# Altium integrated library Linear Technology Power Management Switching Regulator LTC1174-LTC3901.IntLib: 2647 symbols (part 30 of 364)
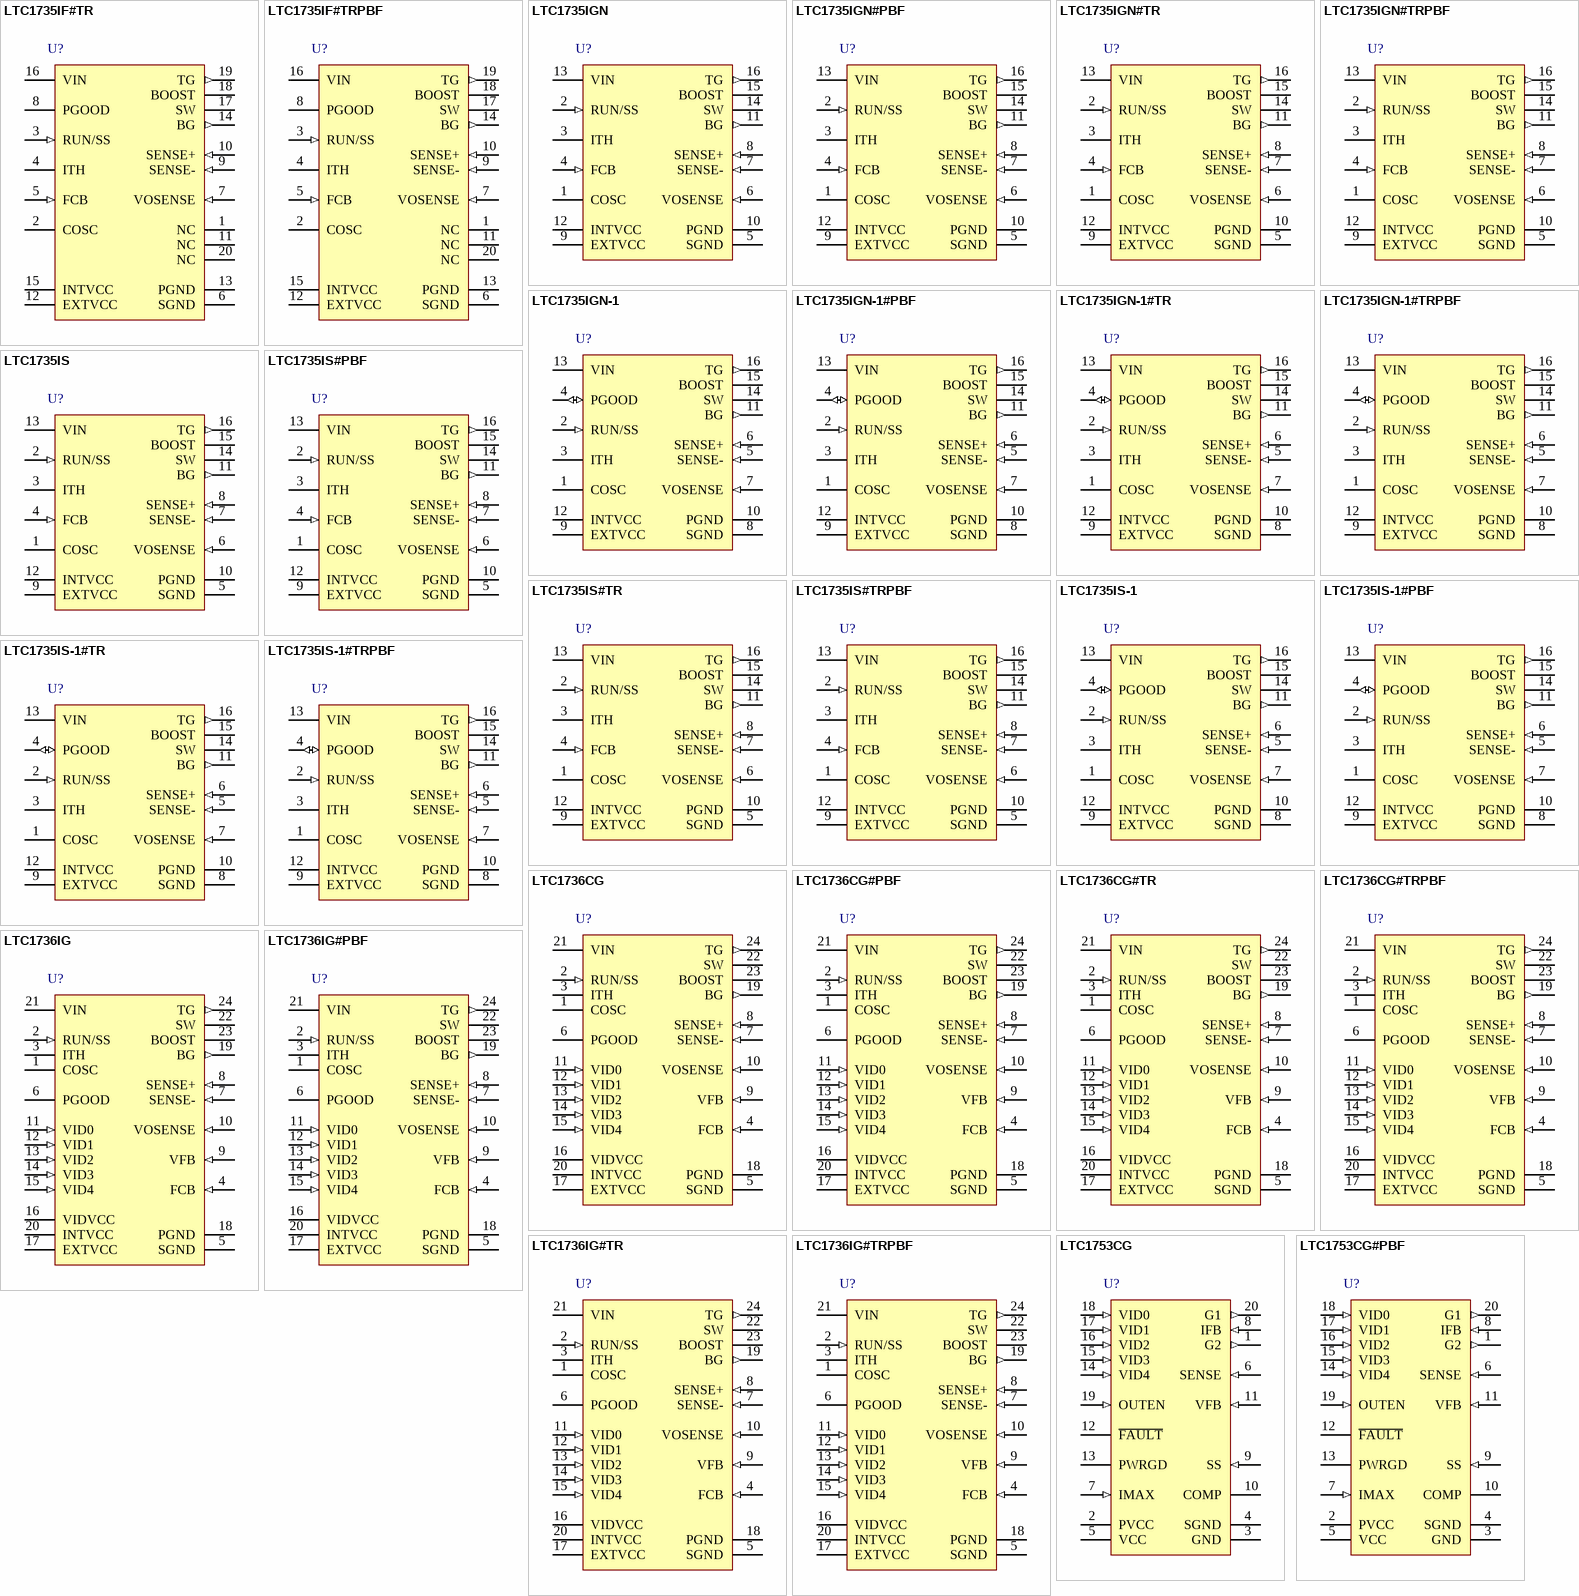
[diagram p131: symbols LTC1735IF#TR to LTC1753CG#PBF]

## LTC1736IG
designator U?
5-Bit Adjustable High Efficiency Synchronous Step-Down Switching Regulator, 24-pin SOP (G-24), -40 to 85 degC; Manufacturer: Linear Technology; PartNumber: LTC1736IG; Number of Outputs: 1; PackageVersion: Jun-10; PackageReference: G-24; PackageDescription: 24-Pin Plastic SSOP, Body 8.2 x 5.3 mm, Pitch 0.65 mm; Supplier 1: Digi-Key; Supplier Part Number 1: LTC1736IG-ND; RoHS: FALSE; Mounting Technology: Surface Mount; ComponentLink1Description: Manufacturer URL; ComponentLink1URL: http://www.linear.com/; ComponentLink2Description: Datasheet; ComponentLink2URL: http://cds.linear.com/docs/en/datasheet/1736f.pdf; ComponentLink3Description: Package Specification; ComponentLink3URL: http://cds.linear.com/docs/en/packaging/SSOP_24_05-08-1640.pdf
footprint LT-G-24_N (SOP, 24-Leads, Body 8.5x5.6mm, Pitch 0.65mm, IPC Medium Density)
footprint LT-G-24_L (SOP, 24-Leads, Body 8.5x5.6mm, Pitch 0.65mm, IPC High Density)
footprint LT-G-24_M (SOP, 24-Leads, Body 8.5x5.6mm, Pitch 0.65mm, IPC Low Density)
pins: 1 COSC "External capacitor COSC from this pin to ground sets the operating frequency.", 2 RUN/SS (in) "Combination of Soft-Start and Run Control Inputs. A capacitor to ground at this pin sets the ramp time to full output current. The time is approximately 1.25s/mF. Forcing this pin below 1.5V causes the device to be shut down.(See Datasheet)", 3 ITH "Error Amplifier Compensation Point. The current comparator threshold increases with this control voltage. Nominal voltage range for this pin is 0V to 2.4V.", 4 FCB (in) "Forced Continuous/Synchronization Input. Tie this pin to ground for continuous synchronous operation, to a resistive divider from the secondary output when using a secondary winding, or to INTVCC to enable Burst Mode (See Datasheet)", 5 SGND (power) "Small-Signal Ground. All small-signal components such as COSC, CSS plus the loop compensation resistors and capacitor(s) should single-point tie to this pin. This pin should, in turn, connect to PGND.", 6 PGOOD (oc) "Open-Drain Logic Output. PGOOD is pulled to ground when the voltage on the VOSENSE pin is not within +/-7.5% of its set point.", 7 SENSE- (in) "The (-) Input to the Current Comparator.", 8 SENSE+ (in) "The (+) Input to the Current Comparator. Built-in offsets between SENSE - and SENSE+ pins in conjunction with RSENSE set the current trip threshold.", 9 VFB (in) "Divided Down VOSENSE Voltage Feeding the Error Amplifier of the Regulator. The VID inputs program a resistive divider between VOSENSE and SGND; the tap point on the divider is VFB . The voltage on VFB is 0.8V when the output (See Datasheet)", 10 VOSENSE (in) "Receives the remotely sensed feedback voltage from the output.", 11 VID0 (in) "Digital Inputs for controlling the output voltage from 0.925V to 2.0V. Table 1 specifies the VOSENSE voltages for the 32 combinations of digital inputs. The LSB (VID0) represents 50mV increments in the upper voltage range (2.(See Datasheet)", 12 VID1 (in) "Digital Inputs for controlling the output voltage from 0.925V to 2.0V. Table 1 specifies the VOSENSE voltages for the 32 combinations of digital inputs. The LSB (VID0) represents 50mV increments in the upper voltage range (2.(See Datasheet)", 13 VID2 (in) "Digital Inputs for controlling the output voltage from 0.925V to 2.0V. Table 1 specifies the VOSENSE voltages for the 32 combinations of digital inputs. The LSB (VID0) represents 50mV increments in the upper voltage range (2.(See Datasheet)", 14 VID3 (in) "Digital Inputs for controlling the output voltage from 0.925V to 2.0V. Table 1 specifies the VOSENSE voltages for the 32 combinations of digital inputs. The LSB (VID0) represents 50mV increments in the upper voltage range (2.(See Datasheet)", 15 VID4 (in) "Digital Inputs for controlling the output voltage from 0.925V to 2.0V. Table 1 specifies the VOSENSE voltages for the 32 combinations of digital inputs. The LSB (VID0) represents 50mV increments in the upper voltage range (2.(See Datasheet)", 16 VIDVCC (power) "VID Input Supply Voltage. Can range from 2.7V to 7V. Typically this pin is tied to INTVCC.", 17 EXTVCC (power) "Input to the Internal Switch Connected to INTVCC. This switch closes and supplies VCC power whenever EXTVCC is higher than 4.7V. See EXTVCC connection in the Applications Information section. Do not exceed 7V to this pin and (See Datasheet)", 18 PGND (power) "Driver Power Ground. This pin connects to the source of the bottom N-channel MOSFET, the anode of the Schottky diode and the (-) terminal of CIN.", 19 BG (out) "High Current Gate Drive for Bottom N-Channel MOSFET. Voltage swing at this pin is from ground to INTVCC .", 20 INTVCC (power) "Output of the Internal 5.2V Regulator and EXTVCC Switch. The driver and control circuits are powered from this voltage. Decouple to power ground with a 1uF ceramic capacitor placed directly adjacent to the IC together with a (See Datasheet)", 21 VIN (power) "Main Supply Pin. This pin must be closely decoupled to power ground.", 22 SW "Switch Node Connection to Inductor and Bootstrap Capacitor. Voltage swing at this pin is from a Schottky diode (external) voltage drop below ground to VIN.", 23 BOOST "Supply to Topside Floating Driver. The bootstrap capacitor is returned to this pin. Voltage swing at this pin is from a diode drop below INTVCC to VIN + INTVCC.", 24 TG (out) "High Current Gate Drive for Top N-Channel MOSFET. This is the output of a floating driver with a voltage swing equal to INTVCC superimposed on the switch node voltage SW."

## LTC1736IG#PBF
designator U?
5-Bit Adjustable High Efficiency Synchronous Step-Down Switching Regulator, 24-pin SOP (G-24), -40 to 85 degC, Pb-Free; Manufacturer: Linear Technology; PartNumber: LTC1736IG#PBF; Number of Outputs: 1; PackageVersion: Jun-10; PackageReference: G-24; PackageDescription: 24-Pin Plastic SSOP, Body 8.2 x 5.3 mm, Pitch 0.65 mm; Supplier 1: Digi-Key; Supplier Part Number 1: LTC1736IG#PBF-ND; RoHS: TRUE; Mounting Technology: Surface Mount; ComponentLink1Description: Manufacturer URL; ComponentLink1URL: http://www.linear.com/; ComponentLink2Description: Datasheet; ComponentLink2URL: http://cds.linear.com/docs/en/datasheet/1736f.pdf; ComponentLink3Description: Package Specification; ComponentLink3URL: http://cds.linear.com/docs/en/packaging/SSOP_24_05-08-1640.pdf
footprint LT-G-24_N (SOP, 24-Leads, Body 8.5x5.6mm, Pitch 0.65mm, IPC Medium Density)
footprint LT-G-24_L (SOP, 24-Leads, Body 8.5x5.6mm, Pitch 0.65mm, IPC High Density)
footprint LT-G-24_M (SOP, 24-Leads, Body 8.5x5.6mm, Pitch 0.65mm, IPC Low Density)
pins: 1 COSC "External capacitor COSC from this pin to ground sets the operating frequency.", 2 RUN/SS (in) "Combination of Soft-Start and Run Control Inputs. A capacitor to ground at this pin sets the ramp time to full output current. The time is approximately 1.25s/mF. Forcing this pin below 1.5V causes the device to be shut down.(See Datasheet)", 3 ITH "Error Amplifier Compensation Point. The current comparator threshold increases with this control voltage. Nominal voltage range for this pin is 0V to 2.4V.", 4 FCB (in) "Forced Continuous/Synchronization Input. Tie this pin to ground for continuous synchronous operation, to a resistive divider from the secondary output when using a secondary winding, or to INTVCC to enable Burst Mode (See Datasheet)", 5 SGND (power) "Small-Signal Ground. All small-signal components such as COSC, CSS plus the loop compensation resistors and capacitor(s) should single-point tie to this pin. This pin should, in turn, connect to PGND.", 6 PGOOD (oc) "Open-Drain Logic Output. PGOOD is pulled to ground when the voltage on the VOSENSE pin is not within +/-7.5% of its set point.", 7 SENSE- (in) "The (-) Input to the Current Comparator.", 8 SENSE+ (in) "The (+) Input to the Current Comparator. Built-in offsets between SENSE - and SENSE+ pins in conjunction with RSENSE set the current trip threshold.", 9 VFB (in) "Divided Down VOSENSE Voltage Feeding the Error Amplifier of the Regulator. The VID inputs program a resistive divider between VOSENSE and SGND; the tap point on the divider is VFB . The voltage on VFB is 0.8V when the output (See Datasheet)", 10 VOSENSE (in) "Receives the remotely sensed feedback voltage from the output.", 11 VID0 (in) "Digital Inputs for controlling the output voltage from 0.925V to 2.0V. Table 1 specifies the VOSENSE voltages for the 32 combinations of digital inputs. The LSB (VID0) represents 50mV increments in the upper voltage range (2.(See Datasheet)", 12 VID1 (in) "Digital Inputs for controlling the output voltage from 0.925V to 2.0V. Table 1 specifies the VOSENSE voltages for the 32 combinations of digital inputs. The LSB (VID0) represents 50mV increments in the upper voltage range (2.(See Datasheet)", 13 VID2 (in) "Digital Inputs for controlling the output voltage from 0.925V to 2.0V. Table 1 specifies the VOSENSE voltages for the 32 combinations of digital inputs. The LSB (VID0) represents 50mV increments in the upper voltage range (2.(See Datasheet)", 14 VID3 (in) "Digital Inputs for controlling the output voltage from 0.925V to 2.0V. Table 1 specifies the VOSENSE voltages for the 32 combinations of digital inputs. The LSB (VID0) represents 50mV increments in the upper voltage range (2.(See Datasheet)", 15 VID4 (in) "Digital Inputs for controlling the output voltage from 0.925V to 2.0V. Table 1 specifies the VOSENSE voltages for the 32 combinations of digital inputs. The LSB (VID0) represents 50mV increments in the upper voltage range (2.(See Datasheet)", 16 VIDVCC (power) "VID Input Supply Voltage. Can range from 2.7V to 7V. Typically this pin is tied to INTVCC.", 17 EXTVCC (power) "Input to the Internal Switch Connected to INTVCC. This switch closes and supplies VCC power whenever EXTVCC is higher than 4.7V. See EXTVCC connection in the Applications Information section. Do not exceed 7V to this pin and (See Datasheet)", 18 PGND (power) "Driver Power Ground. This pin connects to the source of the bottom N-channel MOSFET, the anode of the Schottky diode and the (-) terminal of CIN.", 19 BG (out) "High Current Gate Drive for Bottom N-Channel MOSFET. Voltage swing at this pin is from ground to INTVCC .", 20 INTVCC (power) "Output of the Internal 5.2V Regulator and EXTVCC Switch. The driver and control circuits are powered from this voltage. Decouple to power ground with a 1uF ceramic capacitor placed directly adjacent to the IC together with a (See Datasheet)", 21 VIN (power) "Main Supply Pin. This pin must be closely decoupled to power ground.", 22 SW "Switch Node Connection to Inductor and Bootstrap Capacitor. Voltage swing at this pin is from a Schottky diode (external) voltage drop below ground to VIN.", 23 BOOST "Supply to Topside Floating Driver. The bootstrap capacitor is returned to this pin. Voltage swing at this pin is from a diode drop below INTVCC to VIN + INTVCC.", 24 TG (out) "High Current Gate Drive for Top N-Channel MOSFET. This is the output of a floating driver with a voltage swing equal to INTVCC superimposed on the switch node voltage SW."

## LTC1736IG#TR
designator U?
5-Bit Adjustable High Efficiency Synchronous Step-Down Switching Regulator, 24-pin SOP (G-24), -40 to 85 degC, Tape and Reel; Manufacturer: Linear Technology; PartNumber: LTC1736IG#TR; Number of Outputs: 1; PackageVersion: Jun-10; PackageReference: G-24; PackageDescription: 24-Pin Plastic SSOP, Body 8.2 x 5.3 mm, Pitch 0.65 mm; Supplier 1: Digi-Key; Supplier Part Number 1: LTC1736IG#TR-ND; Packing: Tape and Reel; RoHS: FALSE; Mounting Technology: Surface Mount; ComponentLink1Description: Manufacturer URL; ComponentLink1URL: http://www.linear.com/; ComponentLink2Description: Datasheet; ComponentLink2URL: http://cds.linear.com/docs/en/datasheet/1736f.pdf; ComponentLink3Description: Package Specification; ComponentLink3URL: http://cds.linear.com/docs/en/packaging/SSOP_24_05-08-1640.pdf
footprint LT-G-24_N (SOP, 24-Leads, Body 8.5x5.6mm, Pitch 0.65mm, IPC Medium Density)
footprint LT-G-24_L (SOP, 24-Leads, Body 8.5x5.6mm, Pitch 0.65mm, IPC High Density)
footprint LT-G-24_M (SOP, 24-Leads, Body 8.5x5.6mm, Pitch 0.65mm, IPC Low Density)
pins: 1 COSC "External capacitor COSC from this pin to ground sets the operating frequency.", 2 RUN/SS (in) "Combination of Soft-Start and Run Control Inputs. A capacitor to ground at this pin sets the ramp time to full output current. The time is approximately 1.25s/mF. Forcing this pin below 1.5V causes the device to be shut down.(See Datasheet)", 3 ITH "Error Amplifier Compensation Point. The current comparator threshold increases with this control voltage. Nominal voltage range for this pin is 0V to 2.4V.", 4 FCB (in) "Forced Continuous/Synchronization Input. Tie this pin to ground for continuous synchronous operation, to a resistive divider from the secondary output when using a secondary winding, or to INTVCC to enable Burst Mode (See Datasheet)", 5 SGND (power) "Small-Signal Ground. All small-signal components such as COSC, CSS plus the loop compensation resistors and capacitor(s) should single-point tie to this pin. This pin should, in turn, connect to PGND.", 6 PGOOD (oc) "Open-Drain Logic Output. PGOOD is pulled to ground when the voltage on the VOSENSE pin is not within +/-7.5% of its set point.", 7 SENSE- (in) "The (-) Input to the Current Comparator.", 8 SENSE+ (in) "The (+) Input to the Current Comparator. Built-in offsets between SENSE - and SENSE+ pins in conjunction with RSENSE set the current trip threshold.", 9 VFB (in) "Divided Down VOSENSE Voltage Feeding the Error Amplifier of the Regulator. The VID inputs program a resistive divider between VOSENSE and SGND; the tap point on the divider is VFB . The voltage on VFB is 0.8V when the output (See Datasheet)", 10 VOSENSE (in) "Receives the remotely sensed feedback voltage from the output.", 11 VID0 (in) "Digital Inputs for controlling the output voltage from 0.925V to 2.0V. Table 1 specifies the VOSENSE voltages for the 32 combinations of digital inputs. The LSB (VID0) represents 50mV increments in the upper voltage range (2.(See Datasheet)", 12 VID1 (in) "Digital Inputs for controlling the output voltage from 0.925V to 2.0V. Table 1 specifies the VOSENSE voltages for the 32 combinations of digital inputs. The LSB (VID0) represents 50mV increments in the upper voltage range (2.(See Datasheet)", 13 VID2 (in) "Digital Inputs for controlling the output voltage from 0.925V to 2.0V. Table 1 specifies the VOSENSE voltages for the 32 combinations of digital inputs. The LSB (VID0) represents 50mV increments in the upper voltage range (2.(See Datasheet)", 14 VID3 (in) "Digital Inputs for controlling the output voltage from 0.925V to 2.0V. Table 1 specifies the VOSENSE voltages for the 32 combinations of digital inputs. The LSB (VID0) represents 50mV increments in the upper voltage range (2.(See Datasheet)", 15 VID4 (in) "Digital Inputs for controlling the output voltage from 0.925V to 2.0V. Table 1 specifies the VOSENSE voltages for the 32 combinations of digital inputs. The LSB (VID0) represents 50mV increments in the upper voltage range (2.(See Datasheet)", 16 VIDVCC (power) "VID Input Supply Voltage. Can range from 2.7V to 7V. Typically this pin is tied to INTVCC.", 17 EXTVCC (power) "Input to the Internal Switch Connected to INTVCC. This switch closes and supplies VCC power whenever EXTVCC is higher than 4.7V. See EXTVCC connection in the Applications Information section. Do not exceed 7V to this pin and (See Datasheet)", 18 PGND (power) "Driver Power Ground. This pin connects to the source of the bottom N-channel MOSFET, the anode of the Schottky diode and the (-) terminal of CIN.", 19 BG (out) "High Current Gate Drive for Bottom N-Channel MOSFET. Voltage swing at this pin is from ground to INTVCC .", 20 INTVCC (power) "Output of the Internal 5.2V Regulator and EXTVCC Switch. The driver and control circuits are powered from this voltage. Decouple to power ground with a 1uF ceramic capacitor placed directly adjacent to the IC together with a (See Datasheet)", 21 VIN (power) "Main Supply Pin. This pin must be closely decoupled to power ground.", 22 SW "Switch Node Connection to Inductor and Bootstrap Capacitor. Voltage swing at this pin is from a Schottky diode (external) voltage drop below ground to VIN.", 23 BOOST "Supply to Topside Floating Driver. The bootstrap capacitor is returned to this pin. Voltage swing at this pin is from a diode drop below INTVCC to VIN + INTVCC.", 24 TG (out) "High Current Gate Drive for Top N-Channel MOSFET. This is the output of a floating driver with a voltage swing equal to INTVCC superimposed on the switch node voltage SW."

## LTC1736IG#TRPBF
designator U?
5-Bit Adjustable High Efficiency Synchronous Step-Down Switching Regulator, 24-pin SOP (G-24), -40 to 85 degC, Pb-Free, Tape and Reel; Manufacturer: Linear Technology; PartNumber: LTC1736IG#TRPBF; Number of Outputs: 1; PackageVersion: Jun-10; PackageReference: G-24; PackageDescription: 24-Pin Plastic SSOP, Body 8.2 x 5.3 mm, Pitch 0.65 mm; Supplier 1: Digi-Key; Supplier Part Number 1: LTC1736IG#TRPBF-ND; Packing: Tape and Reel; RoHS: TRUE; Mounting Technology: Surface Mount; ComponentLink1Description: Manufacturer URL; ComponentLink1URL: http://www.linear.com/; ComponentLink2Description: Datasheet; ComponentLink2URL: http://cds.linear.com/docs/en/datasheet/1736f.pdf; ComponentLink3Description: Package Specification; ComponentLink3URL: http://cds.linear.com/docs/en/packaging/SSOP_24_05-08-1640.pdf
footprint LT-G-24_N (SOP, 24-Leads, Body 8.5x5.6mm, Pitch 0.65mm, IPC Medium Density)
footprint LT-G-24_L (SOP, 24-Leads, Body 8.5x5.6mm, Pitch 0.65mm, IPC High Density)
footprint LT-G-24_M (SOP, 24-Leads, Body 8.5x5.6mm, Pitch 0.65mm, IPC Low Density)
pins: 1 COSC "External capacitor COSC from this pin to ground sets the operating frequency.", 2 RUN/SS (in) "Combination of Soft-Start and Run Control Inputs. A capacitor to ground at this pin sets the ramp time to full output current. The time is approximately 1.25s/mF. Forcing this pin below 1.5V causes the device to be shut down.(See Datasheet)", 3 ITH "Error Amplifier Compensation Point. The current comparator threshold increases with this control voltage. Nominal voltage range for this pin is 0V to 2.4V.", 4 FCB (in) "Forced Continuous/Synchronization Input. Tie this pin to ground for continuous synchronous operation, to a resistive divider from the secondary output when using a secondary winding, or to INTVCC to enable Burst Mode (See Datasheet)", 5 SGND (power) "Small-Signal Ground. All small-signal components such as COSC, CSS plus the loop compensation resistors and capacitor(s) should single-point tie to this pin. This pin should, in turn, connect to PGND.", 6 PGOOD (oc) "Open-Drain Logic Output. PGOOD is pulled to ground when the voltage on the VOSENSE pin is not within +/-7.5% of its set point.", 7 SENSE- (in) "The (-) Input to the Current Comparator.", 8 SENSE+ (in) "The (+) Input to the Current Comparator. Built-in offsets between SENSE - and SENSE+ pins in conjunction with RSENSE set the current trip threshold.", 9 VFB (in) "Divided Down VOSENSE Voltage Feeding the Error Amplifier of the Regulator. The VID inputs program a resistive divider between VOSENSE and SGND; the tap point on the divider is VFB . The voltage on VFB is 0.8V when the output (See Datasheet)", 10 VOSENSE (in) "Receives the remotely sensed feedback voltage from the output.", 11 VID0 (in) "Digital Inputs for controlling the output voltage from 0.925V to 2.0V. Table 1 specifies the VOSENSE voltages for the 32 combinations of digital inputs. The LSB (VID0) represents 50mV increments in the upper voltage range (2.(See Datasheet)", 12 VID1 (in) "Digital Inputs for controlling the output voltage from 0.925V to 2.0V. Table 1 specifies the VOSENSE voltages for the 32 combinations of digital inputs. The LSB (VID0) represents 50mV increments in the upper voltage range (2.(See Datasheet)", 13 VID2 (in) "Digital Inputs for controlling the output voltage from 0.925V to 2.0V. Table 1 specifies the VOSENSE voltages for the 32 combinations of digital inputs. The LSB (VID0) represents 50mV increments in the upper voltage range (2.(See Datasheet)", 14 VID3 (in) "Digital Inputs for controlling the output voltage from 0.925V to 2.0V. Table 1 specifies the VOSENSE voltages for the 32 combinations of digital inputs. The LSB (VID0) represents 50mV increments in the upper voltage range (2.(See Datasheet)", 15 VID4 (in) "Digital Inputs for controlling the output voltage from 0.925V to 2.0V. Table 1 specifies the VOSENSE voltages for the 32 combinations of digital inputs. The LSB (VID0) represents 50mV increments in the upper voltage range (2.(See Datasheet)", 16 VIDVCC (power) "VID Input Supply Voltage. Can range from 2.7V to 7V. Typically this pin is tied to INTVCC.", 17 EXTVCC (power) "Input to the Internal Switch Connected to INTVCC. This switch closes and supplies VCC power whenever EXTVCC is higher than 4.7V. See EXTVCC connection in the Applications Information section. Do not exceed 7V to this pin and (See Datasheet)", 18 PGND (power) "Driver Power Ground. This pin connects to the source of the bottom N-channel MOSFET, the anode of the Schottky diode and the (-) terminal of CIN.", 19 BG (out) "High Current Gate Drive for Bottom N-Channel MOSFET. Voltage swing at this pin is from ground to INTVCC .", 20 INTVCC (power) "Output of the Internal 5.2V Regulator and EXTVCC Switch. The driver and control circuits are powered from this voltage. Decouple to power ground with a 1uF ceramic capacitor placed directly adjacent to the IC together with a (See Datasheet)", 21 VIN (power) "Main Supply Pin. This pin must be closely decoupled to power ground.", 22 SW "Switch Node Connection to Inductor and Bootstrap Capacitor. Voltage swing at this pin is from a Schottky diode (external) voltage drop below ground to VIN.", 23 BOOST "Supply to Topside Floating Driver. The bootstrap capacitor is returned to this pin. Voltage swing at this pin is from a diode drop below INTVCC to VIN + INTVCC.", 24 TG (out) "High Current Gate Drive for Top N-Channel MOSFET. This is the output of a floating driver with a voltage swing equal to INTVCC superimposed on the switch node voltage SW."

## LTC1753CG
designator U?
5-Bit Programmable Synchronous Switching Regulator Controller for Pentium(R) II Processor, 20-pin SOP (G-20), 0 to 70 degC; Manufacturer: Linear Technology; PartNumber: LTC1753CG; Number of Outputs: 1; DatasheetVersion: Rev. A; PackageVersion: Jun-10; PackageReference: G-20; PackageDescription: 20-Pin Plastic SSOP, Body 7.2 x 5.3 mm, Pitch 0.65 mm; Supplier 1: Digi-Key; Supplier Part Number 1: LTC1753CG-ND; RoHS: FALSE; Mounting Technology: Surface Mount; ComponentLink1Description: Manufacturer URL; ComponentLink1URL: http://www.linear.com/; ComponentLink2Description: Datasheet; ComponentLink2URL: http://cds.linear.com/docs/en/datasheet/1753fa.pdf; ComponentLink3Description: Package Specification; ComponentLink3URL: http://cds.linear.com/docs/en/packaging/SSOP_20_05-08-1640.pdf
footprint LT-G-20_N (SOP, 20-Leads, Body 7.2x5.3mm, Pitch 0.65mm, IPC Medium Density)
footprint LT-G-20_L (SOP, 20-Leads, Body 7.2x5.3mm, Pitch 0.65mm, IPC High Density)
footprint LT-G-20_M (SOP, 20-Leads, Body 7.2x5.3mm, Pitch 0.65mm, IPC Low Density)
pins: 1 G2 (out) "Gate Drive for the Lower N-Channel MOSFET, Q2. This output will swing from PVCC to GND. It will always be low when G1 is high or when the output is disabled. To prevent undershoot during a soft-start cycle, G2 is held low (See Datasheet)", 2 PVCC (power) "Power Supply for G1 and G2. PVCC must be connected to a potential of at least VIN + VGS(ON)Q1. For normal applications, connect PVCC to a 12V power supply or generate PVCC using a simple charge pump.", 3 GND (power) "Power Ground. GND should be connected to a low impedance ground plane in close proximity to the source of Q2.", 4 SGND (power) "Signal Ground. SGND is connected to the low power internal circuitry and should be connected to the negative terminal of the output capacitor where it returns to the ground plane. GND and SGND should be shorted directly at (See Datasheet)", 5 VCC (power) "Power Supply. Power for the internal low power circuity. VCC should be wired separately from the drain of Q1 if they share the same supply. A 10uF bypass capacitor is recommended from this pin to SGND.", 6 SENSE (in) "Output Voltage Pin. Connect to the positive terminal of the output capacitor. There is an internal 108k resistor connected from this pin to SGND. SENSE is a very sensitive pin; for optimum performance, connect an external (See Datasheet)", 7 IMAX (in) "Current Limit Threshold. Current limit is set by the voltage drop across an external resistor connected between the drain of Q1 and IMAX. There is a 190uA internal pull-down at IMAX.", 8 IFB (in) "Current Limit Sense Pin. Connect to the switching node between the source of Q1 and the drain of Q2. If IFB drops below IMAX when G1 is on, the LTC1753 will go into current limit. The current limit circuit can be disabled by (See Datasheet)", 9 SS (in) "Soft-Start. Connect to an external capacitor to implement a soft-start function. During moderate overload conditions, the soft-start capacitor will be discharged slowly in order to reduce the duty cycle. In hard current (See Datasheet)", 10 COMP "External Compensation. The COMP pin is connected directly to the output of the error amplifier and the input of the PWM comparator. An RC+C network is used at this node to compensate the feedback loop to provide optimum (See Datasheet)", 11 VFB (in) "Voltage Feedback. VFB is the tap point of the internal resistor divider connected from SENSE to SGND. During rapid and heavy output loading conditions, a small capacitor between the SENSE and VFB pin creates a feedforward (See Datasheet)", 12 ~{FAULT} (oc) "Overvoltage Fault. F\A\U\L\T\ is an opendrain output. If VOUT reaches 13% above the nominal output voltage, F\A\U\L\T\ will go low and G1 and G2 will be disabled. Once triggered, the LTC1753 will remain in this state until (See Datasheet)", 13 PWRGD (oc) "Power Good. This is an open-drain signal to indicate validity of output voltage. A high indicates that the output has settled to within +/-3% of the rated output for more than 1ms. PWRGD will go low if the output is out of (See Datasheet)", 14 VID4 (in) "Digital Voltage Select. TTL inputs used to set the regulated output voltage required by the processor (Table 2). There is an internal 20kohm pull-up at each pin. When all five VIDn pins are high or floating, the chip will (See Datasheet)", 15 VID3 (in) "Digital Voltage Select. TTL inputs used to set the regulated output voltage required by the processor (Table 2). There is an internal 20kohm pull-up at each pin. When all five VIDn pins are high or floating, the chip will (See Datasheet)", 16 VID2 (in) "Digital Voltage Select. TTL inputs used to set the regulated output voltage required by the processor (Table 2). There is an internal 20kohm pull-up at each pin. When all five VIDn pins are high or floating, the chip will (See Datasheet)", 17 VID1 (in) "Digital Voltage Select. TTL inputs used to set the regulated output voltage required by the processor (Table 2). There is an internal 20kohm pull-up at each pin. When all five VIDn pins are high or floating, the chip will (See Datasheet)", 18 VID0 (in) "Digital Voltage Select. TTL inputs used to set the regulated output voltage required by the processor (Table 2). There is an internal 20kohm pull-up at each pin. When all five VIDn pins are high or floating, the chip will (See Datasheet)", 19 OUTEN (in) "Output Enable. TTL input which enables the output voltage. The external MOSFET temperature can be monitored with an external thermistor as shown in Figure 11. When the OUTEN input voltage drops below 1.7V, the drivers are (See Datasheet)", 20 G1 (out) "Gate Drive for the Upper N-Channel MOSFET, Q1. This output will swing from PVCC to GND. It will always be low when G2 is high or the output is disabled."

## LTC1753CG#PBF
designator U?
5-Bit Programmable Synchronous Switching Regulator Controller for Pentium(R) II Processor, 20-pin SOP (G-20), 0 to 70 degC, Pb-Free; Manufacturer: Linear Technology; PartNumber: LTC1753CG#PBF; Number of Outputs: 1; DatasheetVersion: Rev. A; PackageVersion: Jun-10; PackageReference: G-20; PackageDescription: 20-Pin Plastic SSOP, Body 7.2 x 5.3 mm, Pitch 0.65 mm; Supplier 1: Digi-Key; Supplier Part Number 1: LTC1753CG#PBF-ND; Supplier 2: Newark; Supplier Part Number 2: 56M3702; RoHS: TRUE; Mounting Technology: Surface Mount; ComponentLink1Description: Manufacturer URL; ComponentLink1URL: http://www.linear.com/; ComponentLink2Description: Datasheet; ComponentLink2URL: http://cds.linear.com/docs/en/datasheet/1753fa.pdf; ComponentLink3Description: Package Specification; ComponentLink3URL: http://cds.linear.com/docs/en/packaging/SSOP_20_05-08-1640.pdf
footprint LT-G-20_N (SOP, 20-Leads, Body 7.2x5.3mm, Pitch 0.65mm, IPC Medium Density)
footprint LT-G-20_L (SOP, 20-Leads, Body 7.2x5.3mm, Pitch 0.65mm, IPC High Density)
footprint LT-G-20_M (SOP, 20-Leads, Body 7.2x5.3mm, Pitch 0.65mm, IPC Low Density)
pins: 1 G2 (out) "Gate Drive for the Lower N-Channel MOSFET, Q2. This output will swing from PVCC to GND. It will always be low when G1 is high or when the output is disabled. To prevent undershoot during a soft-start cycle, G2 is held low (See Datasheet)", 2 PVCC (power) "Power Supply for G1 and G2. PVCC must be connected to a potential of at least VIN + VGS(ON)Q1. For normal applications, connect PVCC to a 12V power supply or generate PVCC using a simple charge pump.", 3 GND (power) "Power Ground. GND should be connected to a low impedance ground plane in close proximity to the source of Q2.", 4 SGND (power) "Signal Ground. SGND is connected to the low power internal circuitry and should be connected to the negative terminal of the output capacitor where it returns to the ground plane. GND and SGND should be shorted directly at (See Datasheet)", 5 VCC (power) "Power Supply. Power for the internal low power circuity. VCC should be wired separately from the drain of Q1 if they share the same supply. A 10uF bypass capacitor is recommended from this pin to SGND.", 6 SENSE (in) "Output Voltage Pin. Connect to the positive terminal of the output capacitor. There is an internal 108k resistor connected from this pin to SGND. SENSE is a very sensitive pin; for optimum performance, connect an external (See Datasheet)", 7 IMAX (in) "Current Limit Threshold. Current limit is set by the voltage drop across an external resistor connected between the drain of Q1 and IMAX. There is a 190uA internal pull-down at IMAX.", 8 IFB (in) "Current Limit Sense Pin. Connect to the switching node between the source of Q1 and the drain of Q2. If IFB drops below IMAX when G1 is on, the LTC1753 will go into current limit. The current limit circuit can be disabled by (See Datasheet)", 9 SS (in) "Soft-Start. Connect to an external capacitor to implement a soft-start function. During moderate overload conditions, the soft-start capacitor will be discharged slowly in order to reduce the duty cycle. In hard current (See Datasheet)", 10 COMP "External Compensation. The COMP pin is connected directly to the output of the error amplifier and the input of the PWM comparator. An RC+C network is used at this node to compensate the feedback loop to provide optimum (See Datasheet)", 11 VFB (in) "Voltage Feedback. VFB is the tap point of the internal resistor divider connected from SENSE to SGND. During rapid and heavy output loading conditions, a small capacitor between the SENSE and VFB pin creates a feedforward (See Datasheet)", 12 ~{FAULT} (oc) "Overvoltage Fault. F\A\U\L\T\ is an opendrain output. If VOUT reaches 13% above the nominal output voltage, F\A\U\L\T\ will go low and G1 and G2 will be disabled. Once triggered, the LTC1753 will remain in this state until (See Datasheet)", 13 PWRGD (oc) "Power Good. This is an open-drain signal to indicate validity of output voltage. A high indicates that the output has settled to within +/-3% of the rated output for more than 1ms. PWRGD will go low if the output is out of (See Datasheet)", 14 VID4 (in) "Digital Voltage Select. TTL inputs used to set the regulated output voltage required by the processor (Table 2). There is an internal 20kohm pull-up at each pin. When all five VIDn pins are high or floating, the chip will (See Datasheet)", 15 VID3 (in) "Digital Voltage Select. TTL inputs used to set the regulated output voltage required by the processor (Table 2). There is an internal 20kohm pull-up at each pin. When all five VIDn pins are high or floating, the chip will (See Datasheet)", 16 VID2 (in) "Digital Voltage Select. TTL inputs used to set the regulated output voltage required by the processor (Table 2). There is an internal 20kohm pull-up at each pin. When all five VIDn pins are high or floating, the chip will (See Datasheet)", 17 VID1 (in) "Digital Voltage Select. TTL inputs used to set the regulated output voltage required by the processor (Table 2). There is an internal 20kohm pull-up at each pin. When all five VIDn pins are high or floating, the chip will (See Datasheet)", 18 VID0 (in) "Digital Voltage Select. TTL inputs used to set the regulated output voltage required by the processor (Table 2). There is an internal 20kohm pull-up at each pin. When all five VIDn pins are high or floating, the chip will (See Datasheet)", 19 OUTEN (in) "Output Enable. TTL input which enables the output voltage. The external MOSFET temperature can be monitored with an external thermistor as shown in Figure 11. When the OUTEN input voltage drops below 1.7V, the drivers are (See Datasheet)", 20 G1 (out) "Gate Drive for the Upper N-Channel MOSFET, Q1. This output will swing from PVCC to GND. It will always be low when G2 is high or the output is disabled."

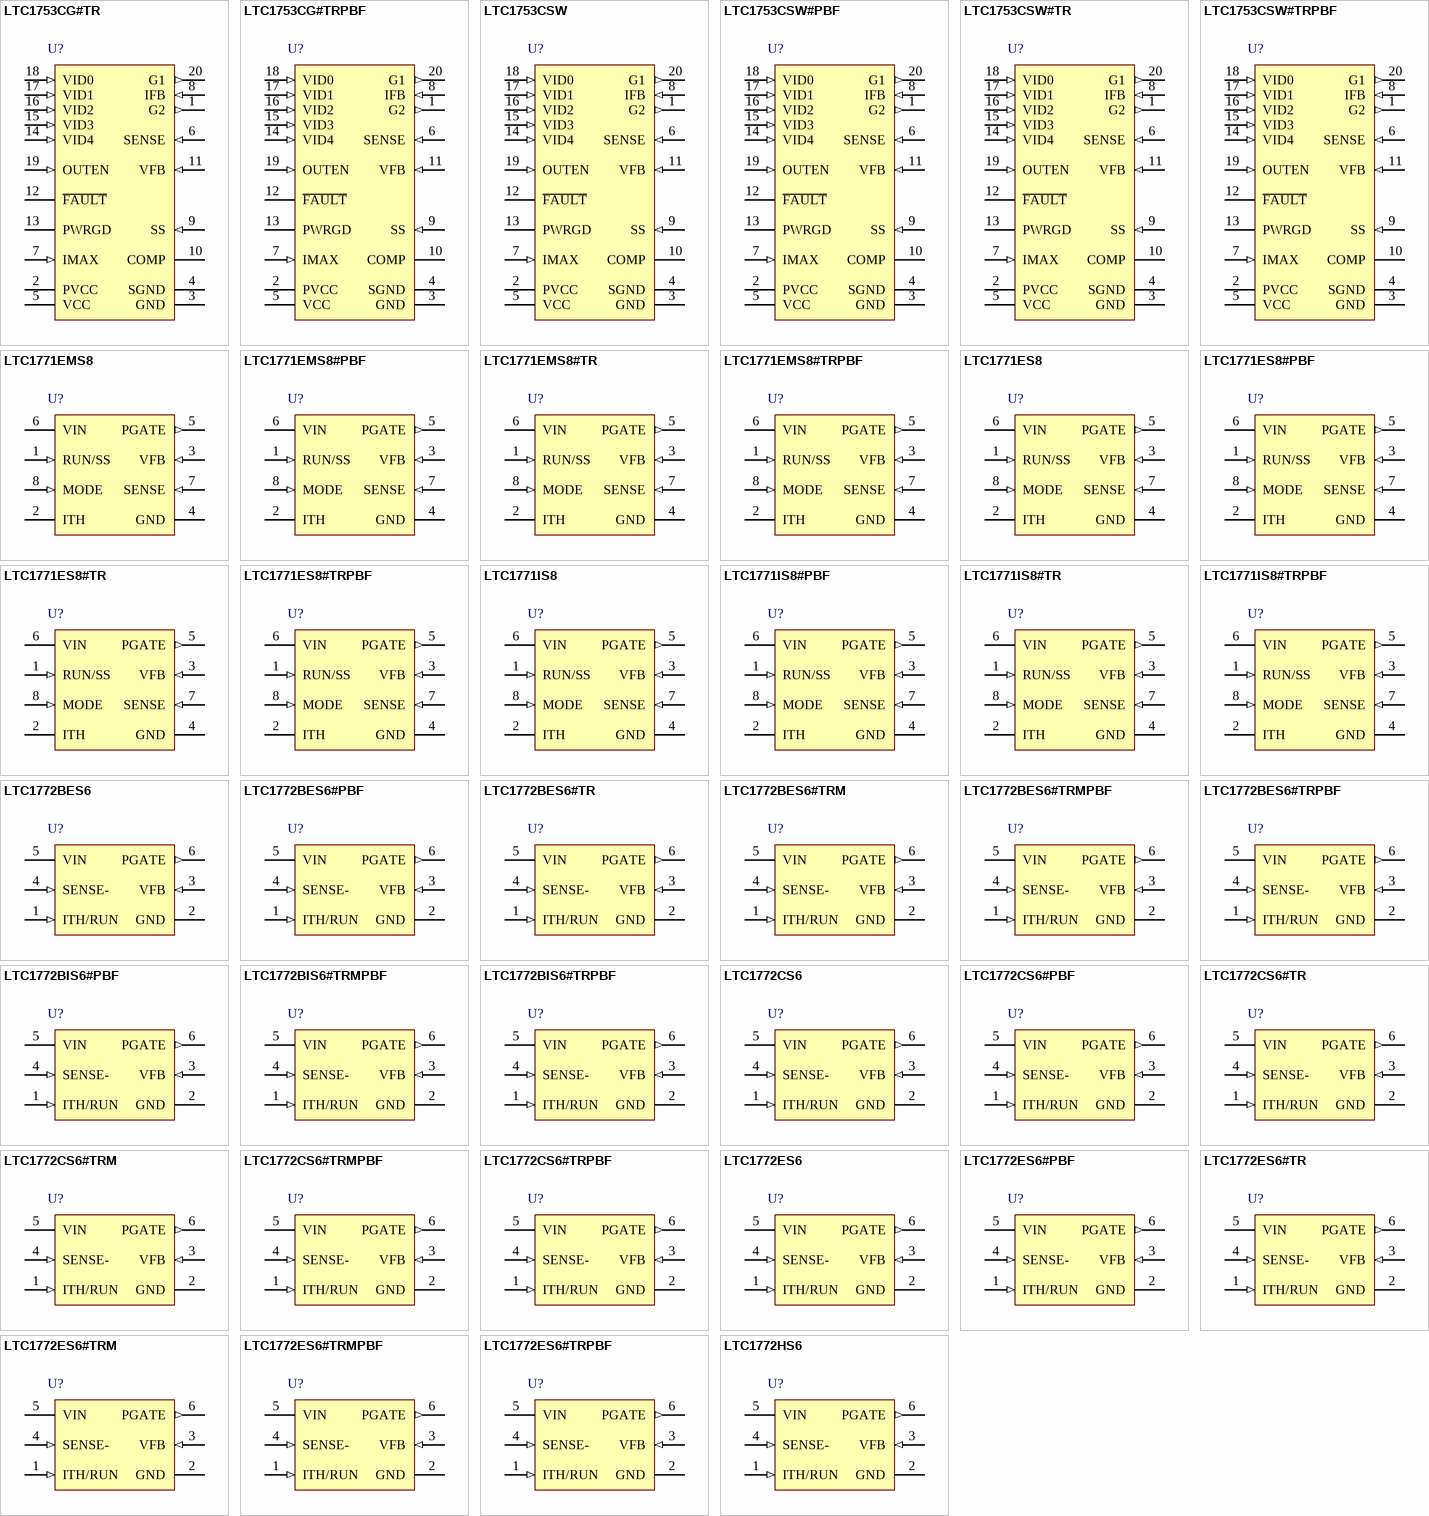
[diagram p9: symbols LTC1753CG#TR to LTC1772HS6]

## LTC1753CG#TR
designator U?
5-Bit Programmable Synchronous Switching Regulator Controller for Pentium(R) II Processor, 20-pin SOP (G-20), 0 to 70 degC, Tape and Reel; Manufacturer: Linear Technology; PartNumber: LTC1753CG#TR; Number of Outputs: 1; DatasheetVersion: Rev. A; PackageVersion: Jun-10; PackageReference: G-20; PackageDescription: 20-Pin Plastic SSOP, Body 7.2 x 5.3 mm, Pitch 0.65 mm; Supplier 1: Digi-Key; Supplier Part Number 1: LTC1753CG#TR-ND; Packing: Tape and Reel; RoHS: FALSE; Mounting Technology: Surface Mount; ComponentLink1Description: Manufacturer URL; ComponentLink1URL: http://www.linear.com/; ComponentLink2Description: Datasheet; ComponentLink2URL: http://cds.linear.com/docs/en/datasheet/1753fa.pdf; ComponentLink3Description: Package Specification; ComponentLink3URL: http://cds.linear.com/docs/en/packaging/SSOP_20_05-08-1640.pdf
footprint LT-G-20_N (SOP, 20-Leads, Body 7.2x5.3mm, Pitch 0.65mm, IPC Medium Density)
footprint LT-G-20_L (SOP, 20-Leads, Body 7.2x5.3mm, Pitch 0.65mm, IPC High Density)
footprint LT-G-20_M (SOP, 20-Leads, Body 7.2x5.3mm, Pitch 0.65mm, IPC Low Density)
pins: 1 G2 (out) "Gate Drive for the Lower N-Channel MOSFET, Q2. This output will swing from PVCC to GND. It will always be low when G1 is high or when the output is disabled. To prevent undershoot during a soft-start cycle, G2 is held low (See Datasheet)", 2 PVCC (power) "Power Supply for G1 and G2. PVCC must be connected to a potential of at least VIN + VGS(ON)Q1. For normal applications, connect PVCC to a 12V power supply or generate PVCC using a simple charge pump.", 3 GND (power) "Power Ground. GND should be connected to a low impedance ground plane in close proximity to the source of Q2.", 4 SGND (power) "Signal Ground. SGND is connected to the low power internal circuitry and should be connected to the negative terminal of the output capacitor where it returns to the ground plane. GND and SGND should be shorted directly at (See Datasheet)", 5 VCC (power) "Power Supply. Power for the internal low power circuity. VCC should be wired separately from the drain of Q1 if they share the same supply. A 10uF bypass capacitor is recommended from this pin to SGND.", 6 SENSE (in) "Output Voltage Pin. Connect to the positive terminal of the output capacitor. There is an internal 108k resistor connected from this pin to SGND. SENSE is a very sensitive pin; for optimum performance, connect an external (See Datasheet)", 7 IMAX (in) "Current Limit Threshold. Current limit is set by the voltage drop across an external resistor connected between the drain of Q1 and IMAX. There is a 190uA internal pull-down at IMAX.", 8 IFB (in) "Current Limit Sense Pin. Connect to the switching node between the source of Q1 and the drain of Q2. If IFB drops below IMAX when G1 is on, the LTC1753 will go into current limit. The current limit circuit can be disabled by (See Datasheet)", 9 SS (in) "Soft-Start. Connect to an external capacitor to implement a soft-start function. During moderate overload conditions, the soft-start capacitor will be discharged slowly in order to reduce the duty cycle. In hard current (See Datasheet)", 10 COMP "External Compensation. The COMP pin is connected directly to the output of the error amplifier and the input of the PWM comparator. An RC+C network is used at this node to compensate the feedback loop to provide optimum (See Datasheet)", 11 VFB (in) "Voltage Feedback. VFB is the tap point of the internal resistor divider connected from SENSE to SGND. During rapid and heavy output loading conditions, a small capacitor between the SENSE and VFB pin creates a feedforward (See Datasheet)", 12 ~{FAULT} (oc) "Overvoltage Fault. F\A\U\L\T\ is an opendrain output. If VOUT reaches 13% above the nominal output voltage, F\A\U\L\T\ will go low and G1 and G2 will be disabled. Once triggered, the LTC1753 will remain in this state until (See Datasheet)", 13 PWRGD (oc) "Power Good. This is an open-drain signal to indicate validity of output voltage. A high indicates that the output has settled to within +/-3% of the rated output for more than 1ms. PWRGD will go low if the output is out of (See Datasheet)", 14 VID4 (in) "Digital Voltage Select. TTL inputs used to set the regulated output voltage required by the processor (Table 2). There is an internal 20kohm pull-up at each pin. When all five VIDn pins are high or floating, the chip will (See Datasheet)", 15 VID3 (in) "Digital Voltage Select. TTL inputs used to set the regulated output voltage required by the processor (Table 2). There is an internal 20kohm pull-up at each pin. When all five VIDn pins are high or floating, the chip will (See Datasheet)", 16 VID2 (in) "Digital Voltage Select. TTL inputs used to set the regulated output voltage required by the processor (Table 2). There is an internal 20kohm pull-up at each pin. When all five VIDn pins are high or floating, the chip will (See Datasheet)", 17 VID1 (in) "Digital Voltage Select. TTL inputs used to set the regulated output voltage required by the processor (Table 2). There is an internal 20kohm pull-up at each pin. When all five VIDn pins are high or floating, the chip will (See Datasheet)", 18 VID0 (in) "Digital Voltage Select. TTL inputs used to set the regulated output voltage required by the processor (Table 2). There is an internal 20kohm pull-up at each pin. When all five VIDn pins are high or floating, the chip will (See Datasheet)", 19 OUTEN (in) "Output Enable. TTL input which enables the output voltage. The external MOSFET temperature can be monitored with an external thermistor as shown in Figure 11. When the OUTEN input voltage drops below 1.7V, the drivers are (See Datasheet)", 20 G1 (out) "Gate Drive for the Upper N-Channel MOSFET, Q1. This output will swing from PVCC to GND. It will always be low when G2 is high or the output is disabled."

## LTC1753CG#TRPBF
designator U?
5-Bit Programmable Synchronous Switching Regulator Controller for Pentium(R) II Processor, 20-pin SOP (G-20), 0 to 70 degC, Pb-Free, Tape and Reel; Manufacturer: Linear Technology; PartNumber: LTC1753CG#TRPBF; Number of Outputs: 1; DatasheetVersion: Rev. A; PackageVersion: Jun-10; PackageReference: G-20; PackageDescription: 20-Pin Plastic SSOP, Body 7.2 x 5.3 mm, Pitch 0.65 mm; Supplier 1: Digi-Key; Supplier Part Number 1: LTC1753CG#TRPBF-ND; Packing: Tape and Reel; RoHS: TRUE; Mounting Technology: Surface Mount; ComponentLink1Description: Manufacturer URL; ComponentLink1URL: http://www.linear.com/; ComponentLink2Description: Datasheet; ComponentLink2URL: http://cds.linear.com/docs/en/datasheet/1753fa.pdf; ComponentLink3Description: Package Specification; ComponentLink3URL: http://cds.linear.com/docs/en/packaging/SSOP_20_05-08-1640.pdf
footprint LT-G-20_N (SOP, 20-Leads, Body 7.2x5.3mm, Pitch 0.65mm, IPC Medium Density)
footprint LT-G-20_L (SOP, 20-Leads, Body 7.2x5.3mm, Pitch 0.65mm, IPC High Density)
footprint LT-G-20_M (SOP, 20-Leads, Body 7.2x5.3mm, Pitch 0.65mm, IPC Low Density)
pins: 1 G2 (out) "Gate Drive for the Lower N-Channel MOSFET, Q2. This output will swing from PVCC to GND. It will always be low when G1 is high or when the output is disabled. To prevent undershoot during a soft-start cycle, G2 is held low (See Datasheet)", 2 PVCC (power) "Power Supply for G1 and G2. PVCC must be connected to a potential of at least VIN + VGS(ON)Q1. For normal applications, connect PVCC to a 12V power supply or generate PVCC using a simple charge pump.", 3 GND (power) "Power Ground. GND should be connected to a low impedance ground plane in close proximity to the source of Q2.", 4 SGND (power) "Signal Ground. SGND is connected to the low power internal circuitry and should be connected to the negative terminal of the output capacitor where it returns to the ground plane. GND and SGND should be shorted directly at (See Datasheet)", 5 VCC (power) "Power Supply. Power for the internal low power circuity. VCC should be wired separately from the drain of Q1 if they share the same supply. A 10uF bypass capacitor is recommended from this pin to SGND.", 6 SENSE (in) "Output Voltage Pin. Connect to the positive terminal of the output capacitor. There is an internal 108k resistor connected from this pin to SGND. SENSE is a very sensitive pin; for optimum performance, connect an external (See Datasheet)", 7 IMAX (in) "Current Limit Threshold. Current limit is set by the voltage drop across an external resistor connected between the drain of Q1 and IMAX. There is a 190uA internal pull-down at IMAX.", 8 IFB (in) "Current Limit Sense Pin. Connect to the switching node between the source of Q1 and the drain of Q2. If IFB drops below IMAX when G1 is on, the LTC1753 will go into current limit. The current limit circuit can be disabled by (See Datasheet)", 9 SS (in) "Soft-Start. Connect to an external capacitor to implement a soft-start function. During moderate overload conditions, the soft-start capacitor will be discharged slowly in order to reduce the duty cycle. In hard current (See Datasheet)", 10 COMP "External Compensation. The COMP pin is connected directly to the output of the error amplifier and the input of the PWM comparator. An RC+C network is used at this node to compensate the feedback loop to provide optimum (See Datasheet)", 11 VFB (in) "Voltage Feedback. VFB is the tap point of the internal resistor divider connected from SENSE to SGND. During rapid and heavy output loading conditions, a small capacitor between the SENSE and VFB pin creates a feedforward (See Datasheet)", 12 ~{FAULT} (oc) "Overvoltage Fault. F\A\U\L\T\ is an opendrain output. If VOUT reaches 13% above the nominal output voltage, F\A\U\L\T\ will go low and G1 and G2 will be disabled. Once triggered, the LTC1753 will remain in this state until (See Datasheet)", 13 PWRGD (oc) "Power Good. This is an open-drain signal to indicate validity of output voltage. A high indicates that the output has settled to within +/-3% of the rated output for more than 1ms. PWRGD will go low if the output is out of (See Datasheet)", 14 VID4 (in) "Digital Voltage Select. TTL inputs used to set the regulated output voltage required by the processor (Table 2). There is an internal 20kohm pull-up at each pin. When all five VIDn pins are high or floating, the chip will (See Datasheet)", 15 VID3 (in) "Digital Voltage Select. TTL inputs used to set the regulated output voltage required by the processor (Table 2). There is an internal 20kohm pull-up at each pin. When all five VIDn pins are high or floating, the chip will (See Datasheet)", 16 VID2 (in) "Digital Voltage Select. TTL inputs used to set the regulated output voltage required by the processor (Table 2). There is an internal 20kohm pull-up at each pin. When all five VIDn pins are high or floating, the chip will (See Datasheet)", 17 VID1 (in) "Digital Voltage Select. TTL inputs used to set the regulated output voltage required by the processor (Table 2). There is an internal 20kohm pull-up at each pin. When all five VIDn pins are high or floating, the chip will (See Datasheet)", 18 VID0 (in) "Digital Voltage Select. TTL inputs used to set the regulated output voltage required by the processor (Table 2). There is an internal 20kohm pull-up at each pin. When all five VIDn pins are high or floating, the chip will (See Datasheet)", 19 OUTEN (in) "Output Enable. TTL input which enables the output voltage. The external MOSFET temperature can be monitored with an external thermistor as shown in Figure 11. When the OUTEN input voltage drops below 1.7V, the drivers are (See Datasheet)", 20 G1 (out) "Gate Drive for the Upper N-Channel MOSFET, Q1. This output will swing from PVCC to GND. It will always be low when G2 is high or the output is disabled."